# EAGLE library part IMX17T110 (library hsk_2012)
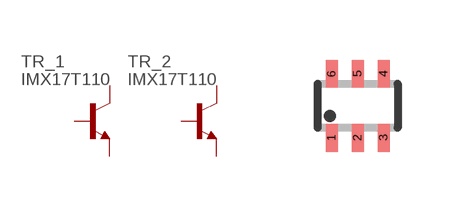
[diagram p30: symbol with the pads of SOT363; footprint SOT363]

Designator prefix TR; gates _1=NPN _2=NPN

## IMX17T110_NO_R  [SOT363]
1  _1:C  pas
2  _2:B  pas
3  _2:E  pas
4  _2:C  pas
5  _1:B  pas
6  _1:E  pas

## Footprint SOT363 (pad centres in mm)
Small Outline Transistor; 6 leads Reflow soldering INFINEON, www.infineon.com/cmc_upload/0/000/010/257/eh_db_5b.pdf
smd 0.3 x 0.7: 1 -0.65,-0.8; 2 0,-0.8; 3 0.65,-0.8; 4 0.65,0.8; 5 0,0.8; 6 -0.65,0.8